# Altium footprint library 兔子.PcbLib: 20 footprints (part 2 of 2)
Each footprint in its own frame and in the unit in brackets; x right, y up, seen from the top. Pads: shape width x height; smd on the part's side, far side on the other; paste and mask are expansions set on the pad; w line width, h text height; cw(c..) or ccw(c..) is an arc to the next point about the centre after c.
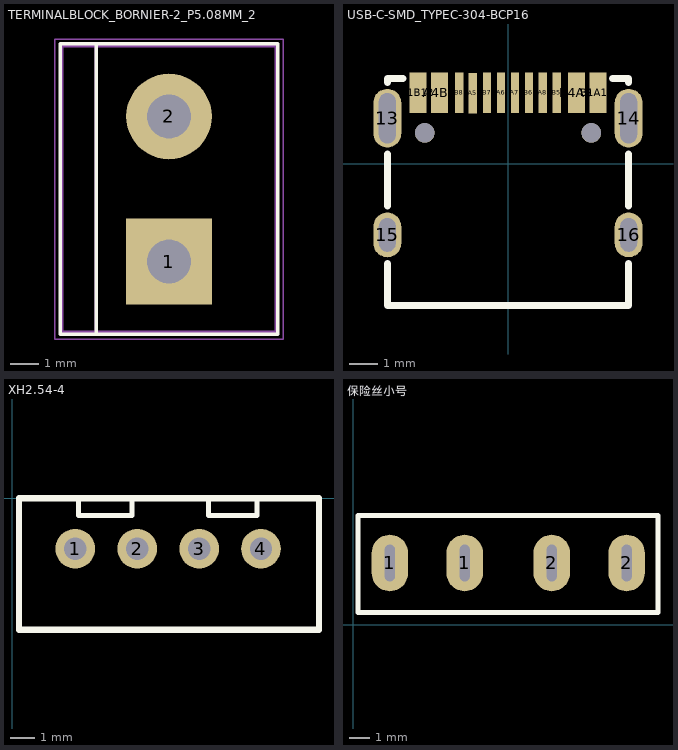
[diagram p1: the footprints below, top view; thin cyan lines are the x and y axes]

## TERMINALBLOCK_BORNIER-2_P5.08MM_2 [mm]
pads (2):
  rect 3x3 hole 1.52 slot 1.525 at 90 deg: 1(81.28,-118.11)
  round 3 hole 1.52 slot 1.525 at 90 deg: 2(81.28,-113.03)
Top Overlay:
  lines w0.12: 78.74,-120.65 78.74,-110.49 ; 77.47,-120.65 77.47,-110.49 85.09,-110.49 85.09,-120.65 77.47,-120.65
Mechanical 1:
  lines w0.05: 77.28,-120.82 85.28,-120.82 85.28,-110.32 77.28,-110.32 77.28,-120.82
Mechanical 15:
  lines w0.1: 78.73,-120.52 78.73,-110.62 ; 77.53,-120.57 77.53,-110.57 85.03,-110.57 85.03,-120.57 77.53,-120.57
  text "J5" at 81.78,-116.37 h1

## USB-C-SMD_TYPEC-304-BCP16 [mm]
pads (18):
  oval 1x2.099 hole 0.6 slot 1.8 at 90 deg: 13(-4.32,1.633) 14(4.32,1.633)
  oval 1x1.599 hole 0.6 slot 1.2 at 90 deg: 15(-4.32,-2.547) 16(4.32,-2.547)
  rect 0.6x1.45 smd: A1B12(-3.225,2.547) A4B9(-2.45,2.547) B1A12(3.22,2.547) B4A9(2.45,2.547)
  rect 0.3x1.45 smd: A5(-1.26,2.532) A6(-0.25,2.547) A7(0.25,2.547) A8(1.25,2.547) B5(1.75,2.547) B6(0.75,2.547) B7(-0.75,2.547) B8(-1.75,2.547)
  round 0.7 hole 0.7 unplated: ""(-2.98,1.102) ""(2.98,1.102)
Top Overlay:
  lines w0.254: -4.318,-3.579 -4.318,-5.08 4.318,-5.08 4.318,-3.579 ; -4.318,-1.516 -4.318,0.351 ; -4.318,2.914 -4.318,3.048 -3.756,3.048 ; 3.751,3.048 4.318,3.048 4.318,2.914 ; 4.318,-1.516 4.318,0.351
3D body "User Library-1054500101.STEP": height 3.28, standoff -0.68, extent -4.47,-5.056 4.47,2.844

## XH2.54-4 [mm]
pads (4):
  round 1.6 hole 0.9: 1(2.54,-2.032) 2(5.04,-2.032) 3(7.54,-2.032) 4(10.033,-2.032)
Top Overlay:
  lines w0.2: 2.675,0 2.675,-0.7 4.825,-0.7 4.825,0 ; 7.925,0 7.925,-0.7 9.875,-0.7 9.875,0
  lines w0.254: 0.275,-5.3 0.275,0 12.375,0 12.375,-5.3 0.275,-5.3
3D body "User Library-B4B-XH-A.STEP": height 7, standoff -3.4, extent 0.075,-5.475 12.475,0.275

## 保险丝小号 [mm]
pads (4):
  oval 1.8x2.8 hole 1.8 slot 0.5 at 0 deg: 1(1.8,3.05) 1(5.5,3.05) 2(9.8,3.05) 2(13.5,3.05)
Top Overlay:
  lines w0.254: 0.225,0.6 15.05,0.6 15.05,5.4 0.225,5.4 0.225,0.6